# Altium integrated library Microchip Interface.IntLib: 149 symbols (part 1 of 4)
Pins are listed as number, name and electrical type; pins without a type are passive.

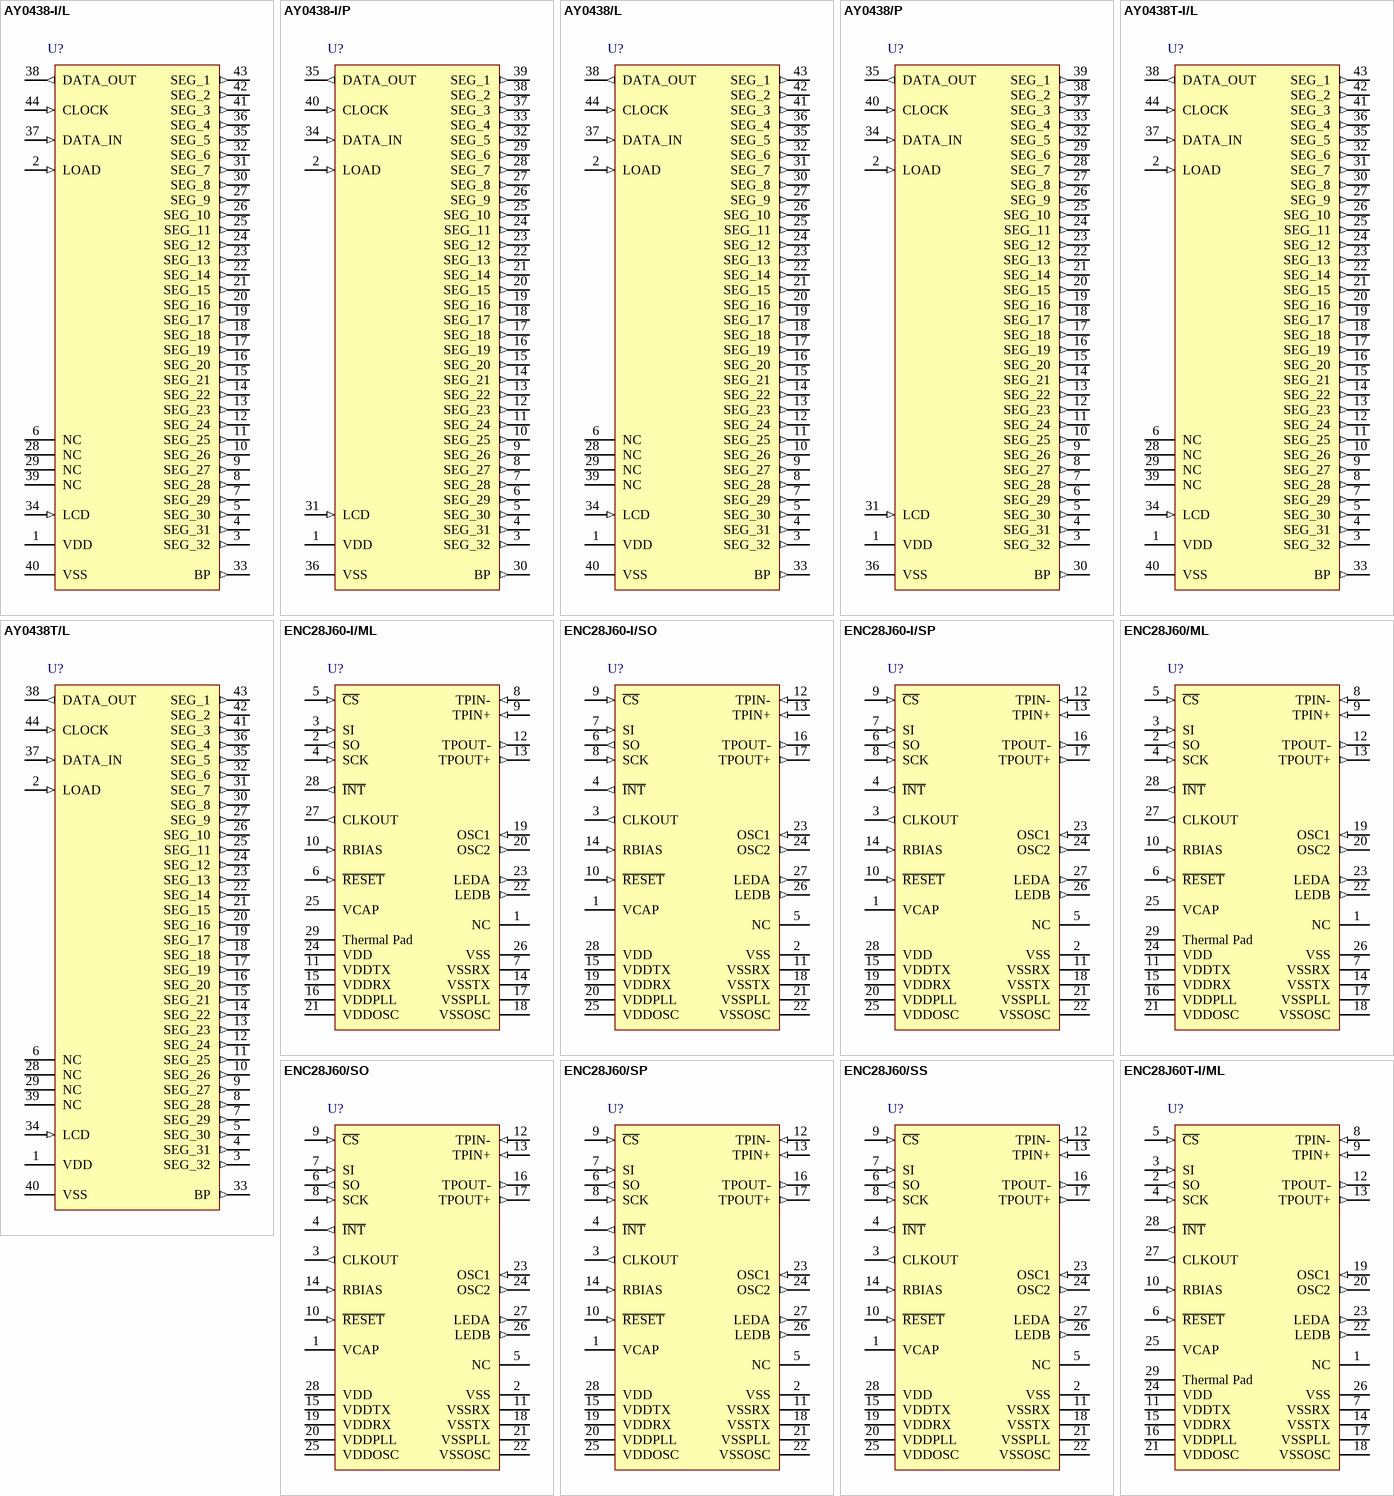
[diagram p0: symbols AY0438-I/L to ENC28J60T-I/ML]

## AY0438-I/L
designator U?
32-Segment CMOS LCD Driver, 44-Pin PLCC, Industrial Temperature; Published: 29-Jan-2009; DatasheetVersion: Mar-2002; PackageVersion: revAW, Oct-2008; PackageReference: PLCC-L44; Publisher: Altium Limited; PackageDescription: 44-Lead Plastic Leaded Chip Carrier (L) - Square [PLCC]; Code_JEDEC: MO-047; Code_IPC: PLCC-44; ComponentLink1Description: Manufacturer Link; ComponentLink1URL: http://www.microchip.com; ComponentLink2Description: Datasheet; ComponentLink2URL: http://ww1.microchip.com/downloads/en/DeviceDoc/80438a.pdf; ComponentLink3Description: Packaging Specification; ComponentLink3URL: http://ww1.microchip.com/downloads/en/PackagingSpec/00049AW.pdf
footprint PLCC-L44_N (Leaded Chip Carrier, 44-Leads, Body 16.6x16.6mm, Pitch 1.27mm, IPC Medium Density)
footprint PLCC-L44_L (Leaded Chip Carrier, 44-Leads, Body 16.6x16.6mm, Pitch 1.27mm, IPC High Density)
footprint PLCC-L44_M (Leaded Chip Carrier, 44-Leads, Body 16.6x16.6mm, Pitch 1.27mm, IPC Low Density)
pins: 1 VDD (power), 2 LOAD (in), 3 SEG_32 (out), 4 SEG_31 (out), 5 SEG_30 (out), 6 NC, 7 SEG_29 (out), 8 SEG_28 (out), 9 SEG_27 (out), 10 SEG_26 (out), 11 SEG_25 (out), 12 SEG_24 (out), 13 SEG_23 (out), 14 SEG_22 (out), 15 SEG_21 (out), 16 SEG_20 (out), 17 SEG_19 (out), 18 SEG_18 (out), 19 SEG_17 (out), 20 SEG_16 (out), 21 SEG_15 (out), 22 SEG_14 (out), 23 SEG_13 (out), 24 SEG_12 (out), 25 SEG_11 (out), 26 SEG_10 (out), 27 SEG_9 (out), 28 NC, 29 NC, 30 SEG_8 (out), 31 SEG_7 (out), 32 SEG_6 (out), 33 BP (out), 34 LCD (in), 35 SEG_5 (out), 36 SEG_4 (out), 37 DATA_IN (in), 38 DATA_OUT (out), 39 NC, 40 VSS (power), 41 SEG_3 (out), 42 SEG_2 (out), 43 SEG_1 (out), 44 CLOCK (in)

## AY0438-I/P
designator U?
32-Segment CMOS LCD Driver, 40-Pin PDIP, Industrial Temperature; Published: 29-Jan-2009; DatasheetVersion: Mar-2002; PackageVersion: revAW, Oct-2008; PackageReference: PDIP600-P40; Publisher: Altium Limited; PackageDescription: 40-Lead Plastic Dual In-Line (P) - 600 mil Body [PDIP]; ComponentLink1Description: Manufacturer Link; ComponentLink1URL: http://www.microchip.com; ComponentLink2Description: Datasheet; ComponentLink2URL: http://ww1.microchip.com/downloads/en/DeviceDoc/80438a.pdf; ComponentLink3Description: Packaging Specification; ComponentLink3URL: http://ww1.microchip.com/downloads/en/PackagingSpec/00049AW.pdf
footprint PDIP600-P40 (DIP, 40-Leads, Row Spacing 15.24mm, Pitch 2.54mm, Body 51.8x13.5mm)
pins: 1 VDD (power), 2 LOAD (in), 3 SEG_32 (out), 4 SEG_31 (out), 5 SEG_30 (out), 6 SEG_29 (out), 7 SEG_28 (out), 8 SEG_27 (out), 9 SEG_26 (out), 10 SEG_25 (out), 11 SEG_24 (out), 12 SEG_23 (out), 13 SEG_22 (out), 14 SEG_21 (out), 15 SEG_20 (out), 16 SEG_19 (out), 17 SEG_18 (out), 18 SEG_17 (out), 19 SEG_16 (out), 20 SEG_15 (out), 21 SEG_14 (out), 22 SEG_13 (out), 23 SEG_12 (out), 24 SEG_11 (out), 25 SEG_10 (out), 26 SEG_9 (out), 27 SEG_8 (out), 28 SEG_7 (out), 29 SEG_6 (out), 30 BP (out), 31 LCD (in), 32 SEG_5 (out), 33 SEG_4 (out), 34 DATA_IN (in), 35 DATA_OUT (out), 36 VSS (power), 37 SEG_3 (out), 38 SEG_2 (out), 39 SEG_1 (out), 40 CLOCK (in)

## AY0438/L
designator U?
32-Segment CMOS LCD Driver, 44-Pin PLCC; Published: 29-Jan-2009; DatasheetVersion: Mar-2002; PackageVersion: revAW, Oct-2008; PackageReference: PLCC-L44; Publisher: Altium Limited; PackageDescription: 44-Lead Plastic Leaded Chip Carrier (L) - Square [PLCC]; Code_JEDEC: MO-047; Code_IPC: PLCC-44; ComponentLink1Description: Manufacturer Link; ComponentLink1URL: http://www.microchip.com; ComponentLink2Description: Datasheet; ComponentLink2URL: http://ww1.microchip.com/downloads/en/DeviceDoc/80438a.pdf; ComponentLink3Description: Packaging Specification; ComponentLink3URL: http://ww1.microchip.com/downloads/en/PackagingSpec/00049AW.pdf
footprint PLCC-L44_N (Leaded Chip Carrier, 44-Leads, Body 16.6x16.6mm, Pitch 1.27mm, IPC Medium Density)
footprint PLCC-L44_L (Leaded Chip Carrier, 44-Leads, Body 16.6x16.6mm, Pitch 1.27mm, IPC High Density)
footprint PLCC-L44_M (Leaded Chip Carrier, 44-Leads, Body 16.6x16.6mm, Pitch 1.27mm, IPC Low Density)
pins: 1 VDD (power), 2 LOAD (in), 3 SEG_32 (out), 4 SEG_31 (out), 5 SEG_30 (out), 6 NC, 7 SEG_29 (out), 8 SEG_28 (out), 9 SEG_27 (out), 10 SEG_26 (out), 11 SEG_25 (out), 12 SEG_24 (out), 13 SEG_23 (out), 14 SEG_22 (out), 15 SEG_21 (out), 16 SEG_20 (out), 17 SEG_19 (out), 18 SEG_18 (out), 19 SEG_17 (out), 20 SEG_16 (out), 21 SEG_15 (out), 22 SEG_14 (out), 23 SEG_13 (out), 24 SEG_12 (out), 25 SEG_11 (out), 26 SEG_10 (out), 27 SEG_9 (out), 28 NC, 29 NC, 30 SEG_8 (out), 31 SEG_7 (out), 32 SEG_6 (out), 33 BP (out), 34 LCD (in), 35 SEG_5 (out), 36 SEG_4 (out), 37 DATA_IN (in), 38 DATA_OUT (out), 39 NC, 40 VSS (power), 41 SEG_3 (out), 42 SEG_2 (out), 43 SEG_1 (out), 44 CLOCK (in)

## AY0438/P
designator U?
32-Segment CMOS LCD Driver, 40-Pin PDIP; Published: 29-Jan-2009; DatasheetVersion: Mar-2002; PackageVersion: revAW, Oct-2008; PackageReference: PDIP600-P40; Publisher: Altium Limited; PackageDescription: 40-Lead Plastic Dual In-Line (P) - 600 mil Body [PDIP]; ComponentLink1Description: Manufacturer Link; ComponentLink1URL: http://www.microchip.com; ComponentLink2Description: Datasheet; ComponentLink2URL: http://ww1.microchip.com/downloads/en/DeviceDoc/80438a.pdf; ComponentLink3Description: Packaging Specification; ComponentLink3URL: http://ww1.microchip.com/downloads/en/PackagingSpec/00049AW.pdf
footprint PDIP600-P40 (DIP, 40-Leads, Row Spacing 15.24mm, Pitch 2.54mm, Body 51.8x13.5mm)
pins: 1 VDD (power), 2 LOAD (in), 3 SEG_32 (out), 4 SEG_31 (out), 5 SEG_30 (out), 6 SEG_29 (out), 7 SEG_28 (out), 8 SEG_27 (out), 9 SEG_26 (out), 10 SEG_25 (out), 11 SEG_24 (out), 12 SEG_23 (out), 13 SEG_22 (out), 14 SEG_21 (out), 15 SEG_20 (out), 16 SEG_19 (out), 17 SEG_18 (out), 18 SEG_17 (out), 19 SEG_16 (out), 20 SEG_15 (out), 21 SEG_14 (out), 22 SEG_13 (out), 23 SEG_12 (out), 24 SEG_11 (out), 25 SEG_10 (out), 26 SEG_9 (out), 27 SEG_8 (out), 28 SEG_7 (out), 29 SEG_6 (out), 30 BP (out), 31 LCD (in), 32 SEG_5 (out), 33 SEG_4 (out), 34 DATA_IN (in), 35 DATA_OUT (out), 36 VSS (power), 37 SEG_3 (out), 38 SEG_2 (out), 39 SEG_1 (out), 40 CLOCK (in)

## AY0438T-I/L
designator U?
32-Segment CMOS LCD Driver, 44-Pin PLCC, Industrial Temperature, Tape and Reel; Published: 29-Jan-2009; DatasheetVersion: Mar-2002; PackageVersion: revAW, Oct-2008; PackageReference: PLCC-L44; Publisher: Altium Limited; PackageDescription: 44-Lead Plastic Leaded Chip Carrier (L) - Square [PLCC]; Code_JEDEC: MO-047; Code_IPC: PLCC-44; ComponentLink1Description: Manufacturer Link; ComponentLink1URL: http://www.microchip.com; ComponentLink2Description: Datasheet; ComponentLink2URL: http://ww1.microchip.com/downloads/en/DeviceDoc/80438a.pdf; ComponentLink3Description: Packaging Specification; ComponentLink3URL: http://ww1.microchip.com/downloads/en/PackagingSpec/00049AW.pdf
footprint PLCC-L44_N (Leaded Chip Carrier, 44-Leads, Body 16.6x16.6mm, Pitch 1.27mm, IPC Medium Density)
footprint PLCC-L44_L (Leaded Chip Carrier, 44-Leads, Body 16.6x16.6mm, Pitch 1.27mm, IPC High Density)
footprint PLCC-L44_M (Leaded Chip Carrier, 44-Leads, Body 16.6x16.6mm, Pitch 1.27mm, IPC Low Density)
pins: 1 VDD (power), 2 LOAD (in), 3 SEG_32 (out), 4 SEG_31 (out), 5 SEG_30 (out), 6 NC, 7 SEG_29 (out), 8 SEG_28 (out), 9 SEG_27 (out), 10 SEG_26 (out), 11 SEG_25 (out), 12 SEG_24 (out), 13 SEG_23 (out), 14 SEG_22 (out), 15 SEG_21 (out), 16 SEG_20 (out), 17 SEG_19 (out), 18 SEG_18 (out), 19 SEG_17 (out), 20 SEG_16 (out), 21 SEG_15 (out), 22 SEG_14 (out), 23 SEG_13 (out), 24 SEG_12 (out), 25 SEG_11 (out), 26 SEG_10 (out), 27 SEG_9 (out), 28 NC, 29 NC, 30 SEG_8 (out), 31 SEG_7 (out), 32 SEG_6 (out), 33 BP (out), 34 LCD (in), 35 SEG_5 (out), 36 SEG_4 (out), 37 DATA_IN (in), 38 DATA_OUT (out), 39 NC, 40 VSS (power), 41 SEG_3 (out), 42 SEG_2 (out), 43 SEG_1 (out), 44 CLOCK (in)

## AY0438T/L
designator U?
32-Segment CMOS LCD Driver, 44-Pin PLCC; Published: 29-Jan-2009; DatasheetVersion: Mar-2002; PackageVersion: revAW, Oct-2008; PackageReference: PLCC-L44; Publisher: Altium Limited; PackageDescription: 44-Lead Plastic Leaded Chip Carrier (L) - Square [PLCC]; Code_JEDEC: MO-047; Code_IPC: PLCC-44; ComponentLink1Description: Manufacturer Link; ComponentLink1URL: http://www.microchip.com; ComponentLink2Description: Datasheet; ComponentLink2URL: http://ww1.microchip.com/downloads/en/DeviceDoc/80438a.pdf; ComponentLink3Description: Packaging Specification; ComponentLink3URL: http://ww1.microchip.com/downloads/en/PackagingSpec/00049AW.pdf
footprint PLCC-L44_N (Leaded Chip Carrier, 44-Leads, Body 16.6x16.6mm, Pitch 1.27mm, IPC Medium Density)
footprint PLCC-L44_L (Leaded Chip Carrier, 44-Leads, Body 16.6x16.6mm, Pitch 1.27mm, IPC High Density)
footprint PLCC-L44_M (Leaded Chip Carrier, 44-Leads, Body 16.6x16.6mm, Pitch 1.27mm, IPC Low Density)
pins: 1 VDD (power), 2 LOAD (in), 3 SEG_32 (out), 4 SEG_31 (out), 5 SEG_30 (out), 6 NC, 7 SEG_29 (out), 8 SEG_28 (out), 9 SEG_27 (out), 10 SEG_26 (out), 11 SEG_25 (out), 12 SEG_24 (out), 13 SEG_23 (out), 14 SEG_22 (out), 15 SEG_21 (out), 16 SEG_20 (out), 17 SEG_19 (out), 18 SEG_18 (out), 19 SEG_17 (out), 20 SEG_16 (out), 21 SEG_15 (out), 22 SEG_14 (out), 23 SEG_13 (out), 24 SEG_12 (out), 25 SEG_11 (out), 26 SEG_10 (out), 27 SEG_9 (out), 28 NC, 29 NC, 30 SEG_8 (out), 31 SEG_7 (out), 32 SEG_6 (out), 33 BP (out), 34 LCD (in), 35 SEG_5 (out), 36 SEG_4 (out), 37 DATA_IN (in), 38 DATA_OUT (out), 39 NC, 40 VSS (power), 41 SEG_3 (out), 42 SEG_2 (out), 43 SEG_1 (out), 44 CLOCK (in)

## ENC28J60-I/ML
designator U?
Stand-Alone Ethernet Controller with SPI Interface, 28-Pin QFN, Industrial Temperature; Published: 29-Jan-2009; LatestRevisionDate: 4-May-2009; LatestRevisionNote: Pinout fixed; DatasheetVersion: RevC, Jan-2008; PackageVersion: revAW, Oct-2008; PackageReference: QFN-ML28; Publisher: Altium Limited; PackageDescription: 28-Lead Plastic Quad Flat, No Lead Package (ML) - 6x6 mm Body [QFN] with 0.55 mm Contact Length; Code_JEDEC: MO-220; Code_IPC: QFN65P600X600-28V; ComponentLink1Description: Manufacturer Link; ComponentLink1URL: http://www.microchip.com; ComponentLink2Description: Datasheet; ComponentLink2URL: http://ww1.microchip.com/downloads/en/DeviceDoc/39662c.pdf; ComponentLink3Description: Packaging Specification; ComponentLink3URL: http://ww1.microchip.com/downloads/en/PackagingSpec/00049AW.pdf
footprint QFN-ML28_N (QFN, 28-Leads, Body 6x6 mm, Pitch 0.65mm, IPC Medium Density)
footprint QFN-ML28_L (QFN, 28-Leads, Body 6x6 mm, Pitch 0.65mm, IPC High Density)
footprint QFN-ML28_M (QFN, 28-Leads, Body 6x6 mm, Pitch 0.65mm, IPC Low Density)
pins: 1 NC, 2 SO (out), 3 SI (in), 4 SCK (in), 5 ~{CS} (in), 6 ~{RESET} (in), 7 VSSRX (power), 8 TPIN- (in), 9 TPIN+ (in), 10 RBIAS (in), 11 VDDTX (power), 12 TPOUT- (out), 13 TPOUT+ (out), 14 VSSTX (power), 15 VDDRX (power), 16 VDDPLL (power), 17 VSSPLL (power), 18 VSSOSC (power), 19 OSC1 (in), 20 OSC2 (out), 21 VDDOSC (power), 22 LEDB (out), 23 LEDA (out), 24 VDD (power), 25 VCAP (power), 26 VSS (power), 27 CLKOUT (out), 28 ~{INT} (out), 29 Thermal Pad

## ENC28J60-I/SO
designator U?
Stand-Alone Ethernet Controller with SPI Interface, 28-Pin SOIC, Industrial Temperature; Published: 29-Jan-2009; DatasheetVersion: RevC, Jan-2008; PackageVersion: revAW, Oct-2008; PackageReference: SOIC-SO28; Publisher: Altium Limited; PackageDescription: 28-Lead Plastic Small Outline (SO) - Wide 7.50mm Body [SOIC]; Code_JEDEC: MS-013; ComponentLink1Description: Manufacturer Link; ComponentLink1URL: http://www.microchip.com; ComponentLink2Description: Datasheet; ComponentLink2URL: http://ww1.microchip.com/downloads/en/DeviceDoc/39662c.pdf; ComponentLink3Description: Packaging Specification; ComponentLink3URL: http://ww1.microchip.com/downloads/en/PackagingSpec/00049AW.pdf
footprint SOIC-SO28_N (SOIC, 28-Leads, Body 17.9x7.5mm, Pitch 1.27mm, IPC Medium Density)
footprint SOIC-SO28_L (SOIC, 28-Leads, Body 17.9x7.5mm, Pitch 1.27mm, IPC High Density)
footprint SOIC-SO28_M (SOIC, 28-Leads, Body 17.9x7.5mm, Pitch 1.27mm, IPC Low Density)
pins: 1 VCAP (power), 2 VSS (power), 3 CLKOUT (out), 4 ~{INT} (out), 5 NC, 6 SO (out), 7 SI (in), 8 SCK (in), 9 ~{CS} (in), 10 ~{RESET} (in), 11 VSSRX (power), 12 TPIN- (in), 13 TPIN+ (in), 14 RBIAS (in), 15 VDDTX (power), 16 TPOUT- (out), 17 TPOUT+ (out), 18 VSSTX (power), 19 VDDRX (power), 20 VDDPLL (power), 21 VSSPLL (power), 22 VSSOSC (power), 23 OSC1 (in), 24 OSC2 (out), 25 VDDOSC (power), 26 LEDB (out), 27 LEDA (out), 28 VDD (power)

## ENC28J60-I/SP
designator U?
Stand-Alone Ethernet Controller with SPI Interface, 28-Pin SPDIP, Industrial Temperature; Published: 29-Jan-2009; DatasheetVersion: RevC, Jan-2008; PackageVersion: revAW, Oct-2008; PackageReference: SPDIP300-SP28; Publisher: Altium Limited; PackageDescription: 28-Lead Skinny Plastic Dual In-Line (SP) - 300 mil Body [SPDIP]; ComponentLink1Description: Manufacturer Link; ComponentLink1URL: http://www.microchip.com; ComponentLink2Description: Datasheet; ComponentLink2URL: http://ww1.microchip.com/downloads/en/DeviceDoc/39662c.pdf; ComponentLink3Description: Packaging Specification; ComponentLink3URL: http://ww1.microchip.com/downloads/en/PackagingSpec/00049AW.pdf
footprint SPDIP300-SP28 (DIP, 28-Leads, Row Spacing 7.62mm, Pitch 2.54mm, Body 34.9x6.8mm)
pins: 1 VCAP (power), 2 VSS (power), 3 CLKOUT (out), 4 ~{INT} (out), 5 NC, 6 SO (out), 7 SI (in), 8 SCK (in), 9 ~{CS} (in), 10 ~{RESET} (in), 11 VSSRX (power), 12 TPIN- (in), 13 TPIN+ (in), 14 RBIAS (in), 15 VDDTX (power), 16 TPOUT- (out), 17 TPOUT+ (out), 18 VSSTX (power), 19 VDDRX (power), 20 VDDPLL (power), 21 VSSPLL (power), 22 VSSOSC (power), 23 OSC1 (in), 24 OSC2 (out), 25 VDDOSC (power), 26 LEDB (out), 27 LEDA (out), 28 VDD (power)

## ENC28J60/ML
designator U?
Stand-Alone Ethernet Controller with SPI Interface, 28-Pin QFN; Published: 29-Jan-2009; LatestRevisionDate: 4-May-2009; LatestRevisionNote: Pinout fixed; DatasheetVersion: RevC, Jan-2008; PackageVersion: revAW, Oct-2008; PackageReference: QFN-ML28; Publisher: Altium Limited; PackageDescription: 28-Lead Plastic Quad Flat, No Lead Package (ML) - 6x6 mm Body [QFN] with 0.55 mm Contact Length; Code_JEDEC: MO-220; Code_IPC: QFN65P600X600-28V; ComponentLink1Description: Manufacturer Link; ComponentLink1URL: http://www.microchip.com; ComponentLink2Description: Datasheet; ComponentLink2URL: http://ww1.microchip.com/downloads/en/DeviceDoc/39662c.pdf; ComponentLink3Description: Packaging Specification; ComponentLink3URL: http://ww1.microchip.com/downloads/en/PackagingSpec/00049AW.pdf
footprint QFN-ML28_N (QFN, 28-Leads, Body 6x6 mm, Pitch 0.65mm, IPC Medium Density)
footprint QFN-ML28_L (QFN, 28-Leads, Body 6x6 mm, Pitch 0.65mm, IPC High Density)
footprint QFN-ML28_M (QFN, 28-Leads, Body 6x6 mm, Pitch 0.65mm, IPC Low Density)
pins: 1 NC, 2 SO (out), 3 SI (in), 4 SCK (in), 5 ~{CS} (in), 6 ~{RESET} (in), 7 VSSRX (power), 8 TPIN- (in), 9 TPIN+ (in), 10 RBIAS (in), 11 VDDTX (power), 12 TPOUT- (out), 13 TPOUT+ (out), 14 VSSTX (power), 15 VDDRX (power), 16 VDDPLL (power), 17 VSSPLL (power), 18 VSSOSC (power), 19 OSC1 (in), 20 OSC2 (out), 21 VDDOSC (power), 22 LEDB (out), 23 LEDA (out), 24 VDD (power), 25 VCAP (power), 26 VSS (power), 27 CLKOUT (out), 28 ~{INT} (out), 29 Thermal Pad

## ENC28J60/SO
designator U?
Stand-Alone Ethernet Controller with SPI Interface, 28-Pin SOIC; Published: 29-Jan-2009; DatasheetVersion: RevC, Jan-2008; PackageVersion: revAW, Oct-2008; PackageReference: SOIC-SO28; Publisher: Altium Limited; PackageDescription: 28-Lead Plastic Small Outline (SO) - Wide 7.50mm Body [SOIC]; Code_JEDEC: MS-013; ComponentLink1Description: Manufacturer Link; ComponentLink1URL: http://www.microchip.com; ComponentLink2Description: Datasheet; ComponentLink2URL: http://ww1.microchip.com/downloads/en/DeviceDoc/39662c.pdf; ComponentLink3Description: Packaging Specification; ComponentLink3URL: http://ww1.microchip.com/downloads/en/PackagingSpec/00049AW.pdf
footprint SOIC-SO28_N (SOIC, 28-Leads, Body 17.9x7.5mm, Pitch 1.27mm, IPC Medium Density)
footprint SOIC-SO28_L (SOIC, 28-Leads, Body 17.9x7.5mm, Pitch 1.27mm, IPC High Density)
footprint SOIC-SO28_M (SOIC, 28-Leads, Body 17.9x7.5mm, Pitch 1.27mm, IPC Low Density)
pins: 1 VCAP (power), 2 VSS (power), 3 CLKOUT (out), 4 ~{INT} (out), 5 NC, 6 SO (out), 7 SI (in), 8 SCK (in), 9 ~{CS} (in), 10 ~{RESET} (in), 11 VSSRX (power), 12 TPIN- (in), 13 TPIN+ (in), 14 RBIAS (in), 15 VDDTX (power), 16 TPOUT- (out), 17 TPOUT+ (out), 18 VSSTX (power), 19 VDDRX (power), 20 VDDPLL (power), 21 VSSPLL (power), 22 VSSOSC (power), 23 OSC1 (in), 24 OSC2 (out), 25 VDDOSC (power), 26 LEDB (out), 27 LEDA (out), 28 VDD (power)

## ENC28J60/SP
designator U?
Stand-Alone Ethernet Controller with SPI Interface, 28-Pin SPDIP; Published: 29-Jan-2009; DatasheetVersion: RevC, Jan-2008; PackageVersion: revAW, Oct-2008; PackageReference: SPDIP300-SP28; Publisher: Altium Limited; PackageDescription: 28-Lead Skinny Plastic Dual In-Line (SP) - 300 mil Body [SPDIP]; ComponentLink1Description: Manufacturer Link; ComponentLink1URL: http://www.microchip.com; ComponentLink2Description: Datasheet; ComponentLink2URL: http://ww1.microchip.com/downloads/en/DeviceDoc/39662c.pdf; ComponentLink3Description: Packaging Specification; ComponentLink3URL: http://ww1.microchip.com/downloads/en/PackagingSpec/00049AW.pdf
footprint SPDIP300-SP28 (DIP, 28-Leads, Row Spacing 7.62mm, Pitch 2.54mm, Body 34.9x6.8mm)
pins: 1 VCAP (power), 2 VSS (power), 3 CLKOUT (out), 4 ~{INT} (out), 5 NC, 6 SO (out), 7 SI (in), 8 SCK (in), 9 ~{CS} (in), 10 ~{RESET} (in), 11 VSSRX (power), 12 TPIN- (in), 13 TPIN+ (in), 14 RBIAS (in), 15 VDDTX (power), 16 TPOUT- (out), 17 TPOUT+ (out), 18 VSSTX (power), 19 VDDRX (power), 20 VDDPLL (power), 21 VSSPLL (power), 22 VSSOSC (power), 23 OSC1 (in), 24 OSC2 (out), 25 VDDOSC (power), 26 LEDB (out), 27 LEDA (out), 28 VDD (power)

## ENC28J60/SS
designator U?
Stand-Alone Ethernet Controller with SPI Interface, 28-Pin SSOP; Published: 29-Jan-2009; DatasheetVersion: RevC, Jan-2008; PackageVersion: revAW, Oct-2008; PackageReference: SSOP-SS28; Publisher: Altium Limited; PackageDescription: 28-Lead Plastic Shrink Small Outline (SS) - 5.3mm Body [SSOP]; Code_JEDEC: MS-150; Code_IPC: SOP65P780-28; ComponentLink1Description: Manufacturer Link; ComponentLink1URL: http://www.microchip.com; ComponentLink2Description: Datasheet; ComponentLink2URL: http://ww1.microchip.com/downloads/en/DeviceDoc/39662c.pdf; ComponentLink3Description: Packaging Specification; ComponentLink3URL: http://ww1.microchip.com/downloads/en/PackagingSpec/00049AW.pdf
footprint SSOP-SS28_N (SOP, 28-Leads, Body 10.2x5.2mm, Pitch 0.65mm, IPC Medium Density)
footprint SSOP-SS28_L (SOP, 28-Leads, Body 10.2x5.2mm, Pitch 0.65mm, IPC High Density)
footprint SSOP-SS28_M (SOP, 28-Leads, Body 10.2x5.2mm, Pitch 0.65mm, IPC Low Density)
pins: 1 VCAP (power), 2 VSS (power), 3 CLKOUT (out), 4 ~{INT} (out), 5 NC, 6 SO (out), 7 SI (in), 8 SCK (in), 9 ~{CS} (in), 10 ~{RESET} (in), 11 VSSRX (power), 12 TPIN- (in), 13 TPIN+ (in), 14 RBIAS (in), 15 VDDTX (power), 16 TPOUT- (out), 17 TPOUT+ (out), 18 VSSTX (power), 19 VDDRX (power), 20 VDDPLL (power), 21 VSSPLL (power), 22 VSSOSC (power), 23 OSC1 (in), 24 OSC2 (out), 25 VDDOSC (power), 26 LEDB (out), 27 LEDA (out), 28 VDD (power)

## ENC28J60T-I/ML
designator U?
Stand-Alone Ethernet Controller with SPI Interface, 28-Pin QFN, Industrial Temperature, Tape and Reel; Published: 29-Jan-2009; LatestRevisionDate: 4-May-2009; LatestRevisionNote: Pinout fixed; DatasheetVersion: RevC, Jan-2008; PackageVersion: revAW, Oct-2008; PackageReference: QFN-ML28; Publisher: Altium Limited; PackageDescription: 28-Lead Plastic Quad Flat, No Lead Package (ML) - 6x6 mm Body [QFN] with 0.55 mm Contact Length; Code_JEDEC: MO-220; Code_IPC: QFN65P600X600-28V; ComponentLink1Description: Manufacturer Link; ComponentLink1URL: http://www.microchip.com; ComponentLink2Description: Datasheet; ComponentLink2URL: http://ww1.microchip.com/downloads/en/DeviceDoc/39662c.pdf; ComponentLink3Description: Packaging Specification; ComponentLink3URL: http://ww1.microchip.com/downloads/en/PackagingSpec/00049AW.pdf
footprint QFN-ML28_N (QFN, 28-Leads, Body 6x6 mm, Pitch 0.65mm, IPC Medium Density)
footprint QFN-ML28_L (QFN, 28-Leads, Body 6x6 mm, Pitch 0.65mm, IPC High Density)
footprint QFN-ML28_M (QFN, 28-Leads, Body 6x6 mm, Pitch 0.65mm, IPC Low Density)
pins: 1 NC, 2 SO (out), 3 SI (in), 4 SCK (in), 5 ~{CS} (in), 6 ~{RESET} (in), 7 VSSRX (power), 8 TPIN- (in), 9 TPIN+ (in), 10 RBIAS (in), 11 VDDTX (power), 12 TPOUT- (out), 13 TPOUT+ (out), 14 VSSTX (power), 15 VDDRX (power), 16 VDDPLL (power), 17 VSSPLL (power), 18 VSSOSC (power), 19 OSC1 (in), 20 OSC2 (out), 21 VDDOSC (power), 22 LEDB (out), 23 LEDA (out), 24 VDD (power), 25 VCAP (power), 26 VSS (power), 27 CLKOUT (out), 28 ~{INT} (out), 29 Thermal Pad

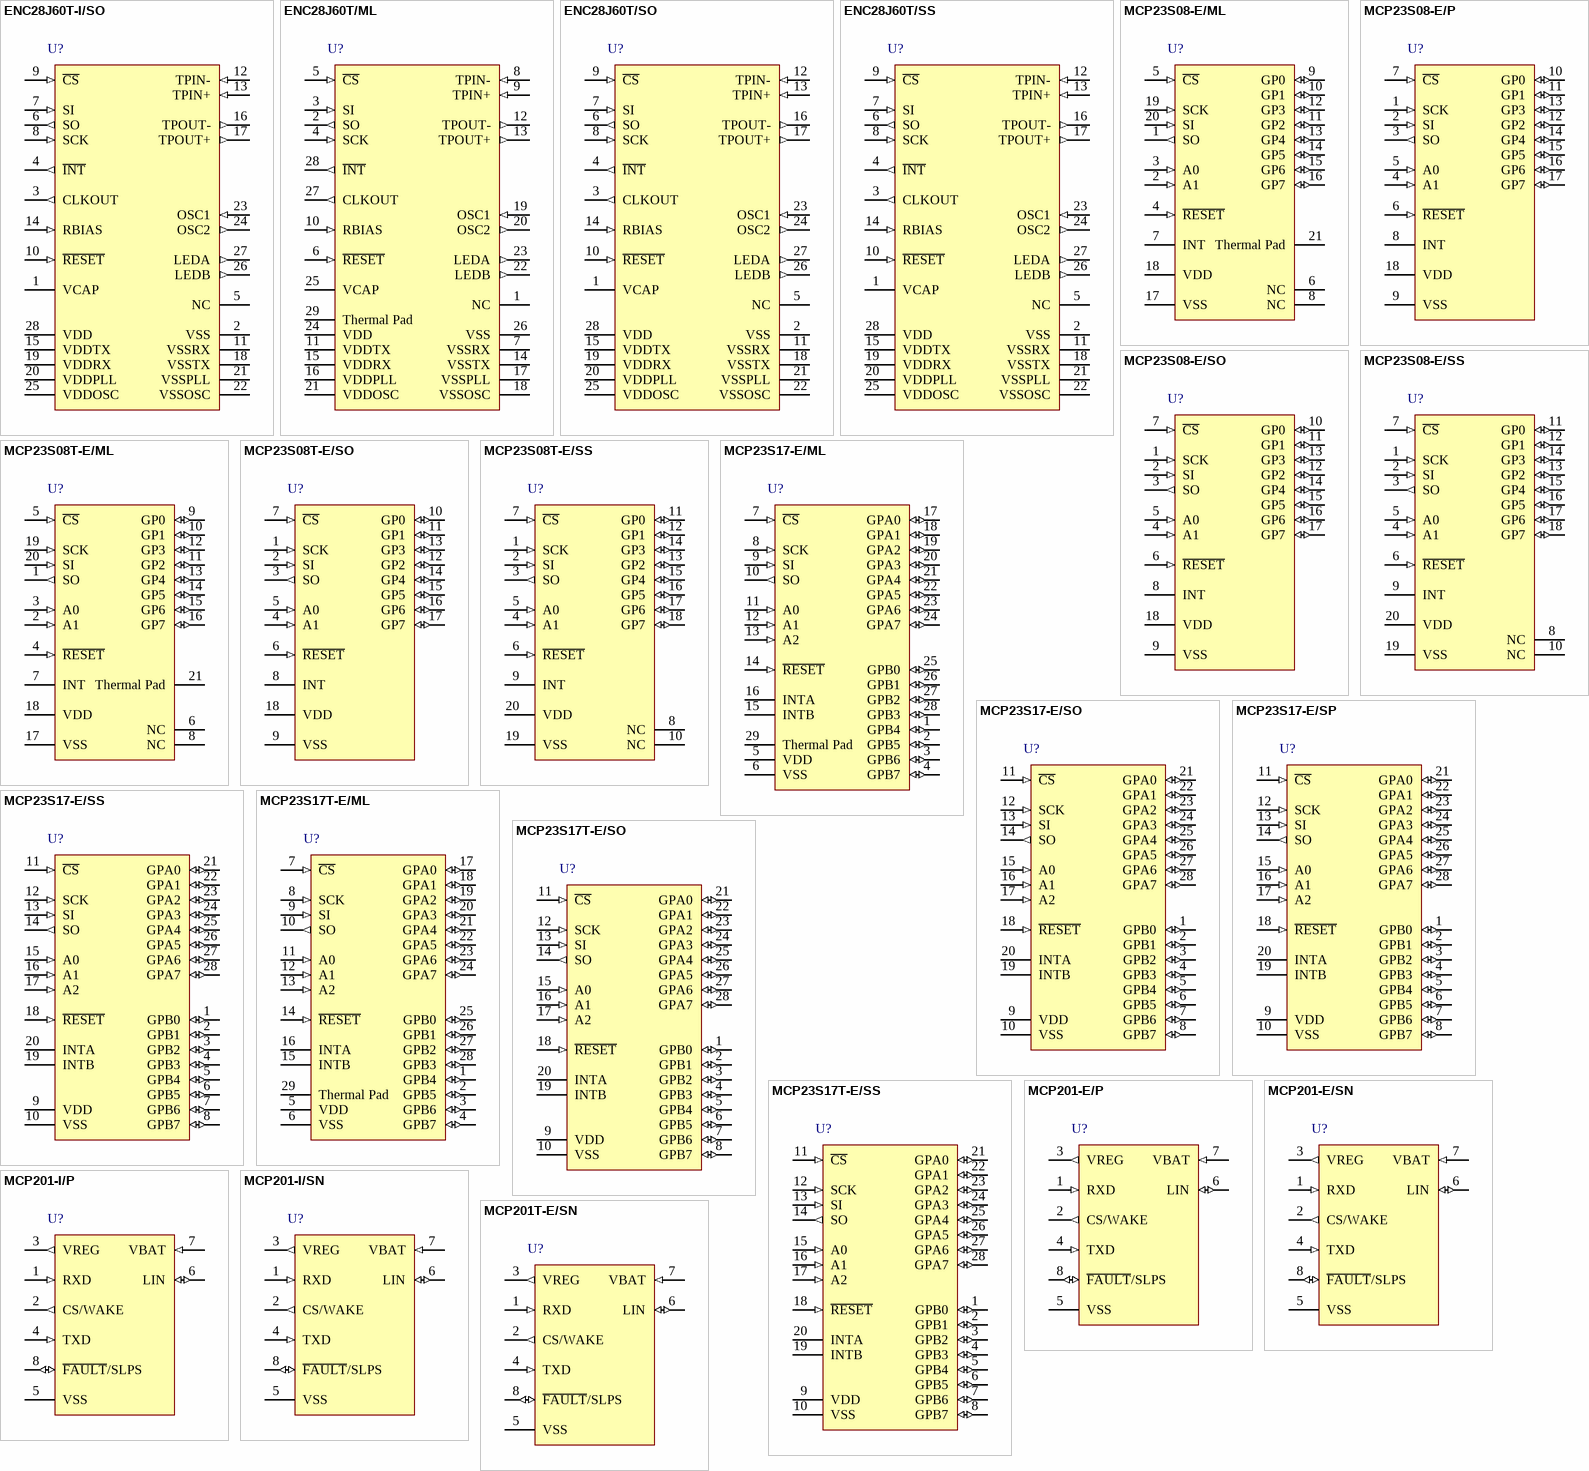
[diagram p1: symbols ENC28J60T-I/SO to MCP201T-E/SN]

## ENC28J60T-I/SO
designator U?
Stand-Alone Ethernet Controller with SPI Interface, 28-Pin SOIC, Industrial Temperature, Tape and Reel; Published: 29-Jan-2009; DatasheetVersion: RevC, Jan-2008; PackageVersion: revAW, Oct-2008; PackageReference: SOIC-SO28; Publisher: Altium Limited; PackageDescription: 28-Lead Plastic Small Outline (SO) - Wide 7.50mm Body [SOIC]; Code_JEDEC: MS-013; ComponentLink1Description: Manufacturer Link; ComponentLink1URL: http://www.microchip.com; ComponentLink2Description: Datasheet; ComponentLink2URL: http://ww1.microchip.com/downloads/en/DeviceDoc/39662c.pdf; ComponentLink3Description: Packaging Specification; ComponentLink3URL: http://ww1.microchip.com/downloads/en/PackagingSpec/00049AW.pdf
footprint SOIC-SO28_N (SOIC, 28-Leads, Body 17.9x7.5mm, Pitch 1.27mm, IPC Medium Density)
footprint SOIC-SO28_L (SOIC, 28-Leads, Body 17.9x7.5mm, Pitch 1.27mm, IPC High Density)
footprint SOIC-SO28_M (SOIC, 28-Leads, Body 17.9x7.5mm, Pitch 1.27mm, IPC Low Density)
pins: 1 VCAP (power), 2 VSS (power), 3 CLKOUT (out), 4 ~{INT} (out), 5 NC, 6 SO (out), 7 SI (in), 8 SCK (in), 9 ~{CS} (in), 10 ~{RESET} (in), 11 VSSRX (power), 12 TPIN- (in), 13 TPIN+ (in), 14 RBIAS (in), 15 VDDTX (power), 16 TPOUT- (out), 17 TPOUT+ (out), 18 VSSTX (power), 19 VDDRX (power), 20 VDDPLL (power), 21 VSSPLL (power), 22 VSSOSC (power), 23 OSC1 (in), 24 OSC2 (out), 25 VDDOSC (power), 26 LEDB (out), 27 LEDA (out), 28 VDD (power)

## ENC28J60T/ML
designator U?
Stand-Alone Ethernet Controller with SPI Interface, 28-Pin QFN; Published: 29-Jan-2009; LatestRevisionDate: 4-May-2009; LatestRevisionNote: Pinout fixed; DatasheetVersion: RevC, Jan-2008; PackageVersion: revAW, Oct-2008; PackageReference: QFN-ML28; Publisher: Altium Limited; PackageDescription: 28-Lead Plastic Quad Flat, No Lead Package (ML) - 6x6 mm Body [QFN] with 0.55 mm Contact Length; Code_JEDEC: MO-220; Code_IPC: QFN65P600X600-28V; ComponentLink1Description: Manufacturer Link; ComponentLink1URL: http://www.microchip.com; ComponentLink2Description: Datasheet; ComponentLink2URL: http://ww1.microchip.com/downloads/en/DeviceDoc/39662c.pdf; ComponentLink3Description: Packaging Specification; ComponentLink3URL: http://ww1.microchip.com/downloads/en/PackagingSpec/00049AW.pdf
footprint QFN-ML28_N (QFN, 28-Leads, Body 6x6 mm, Pitch 0.65mm, IPC Medium Density)
footprint QFN-ML28_L (QFN, 28-Leads, Body 6x6 mm, Pitch 0.65mm, IPC High Density)
footprint QFN-ML28_M (QFN, 28-Leads, Body 6x6 mm, Pitch 0.65mm, IPC Low Density)
pins: 1 NC, 2 SO (out), 3 SI (in), 4 SCK (in), 5 ~{CS} (in), 6 ~{RESET} (in), 7 VSSRX (power), 8 TPIN- (in), 9 TPIN+ (in), 10 RBIAS (in), 11 VDDTX (power), 12 TPOUT- (out), 13 TPOUT+ (out), 14 VSSTX (power), 15 VDDRX (power), 16 VDDPLL (power), 17 VSSPLL (power), 18 VSSOSC (power), 19 OSC1 (in), 20 OSC2 (out), 21 VDDOSC (power), 22 LEDB (out), 23 LEDA (out), 24 VDD (power), 25 VCAP (power), 26 VSS (power), 27 CLKOUT (out), 28 ~{INT} (out), 29 Thermal Pad

## ENC28J60T/SO
designator U?
Stand-Alone Ethernet Controller with SPI Interface, 28-Pin SOIC; Published: 29-Jan-2009; DatasheetVersion: RevC, Jan-2008; PackageVersion: revAW, Oct-2008; PackageReference: SOIC-SO28; Publisher: Altium Limited; PackageDescription: 28-Lead Plastic Small Outline (SO) - Wide 7.50mm Body [SOIC]; Code_JEDEC: MS-013; ComponentLink1Description: Manufacturer Link; ComponentLink1URL: http://www.microchip.com; ComponentLink2Description: Datasheet; ComponentLink2URL: http://ww1.microchip.com/downloads/en/DeviceDoc/39662c.pdf; ComponentLink3Description: Packaging Specification; ComponentLink3URL: http://ww1.microchip.com/downloads/en/PackagingSpec/00049AW.pdf
footprint SOIC-SO28_N (SOIC, 28-Leads, Body 17.9x7.5mm, Pitch 1.27mm, IPC Medium Density)
footprint SOIC-SO28_L (SOIC, 28-Leads, Body 17.9x7.5mm, Pitch 1.27mm, IPC High Density)
footprint SOIC-SO28_M (SOIC, 28-Leads, Body 17.9x7.5mm, Pitch 1.27mm, IPC Low Density)
pins: 1 VCAP (power), 2 VSS (power), 3 CLKOUT (out), 4 ~{INT} (out), 5 NC, 6 SO (out), 7 SI (in), 8 SCK (in), 9 ~{CS} (in), 10 ~{RESET} (in), 11 VSSRX (power), 12 TPIN- (in), 13 TPIN+ (in), 14 RBIAS (in), 15 VDDTX (power), 16 TPOUT- (out), 17 TPOUT+ (out), 18 VSSTX (power), 19 VDDRX (power), 20 VDDPLL (power), 21 VSSPLL (power), 22 VSSOSC (power), 23 OSC1 (in), 24 OSC2 (out), 25 VDDOSC (power), 26 LEDB (out), 27 LEDA (out), 28 VDD (power)

## ENC28J60T/SS
designator U?
Stand-Alone Ethernet Controller with SPI Interface, 28-Pin SSOP, Tape and Reel; Published: 29-Jan-2009; DatasheetVersion: RevC, Jan-2008; PackageVersion: revAW, Oct-2008; PackageReference: SSOP-SS28; Publisher: Altium Limited; PackageDescription: 28-Lead Plastic Shrink Small Outline (SS) - 5.3mm Body [SSOP]; Code_JEDEC: MS-150; Code_IPC: SOP65P780-28; ComponentLink1Description: Manufacturer Link; ComponentLink1URL: http://www.microchip.com; ComponentLink2Description: Datasheet; ComponentLink2URL: http://ww1.microchip.com/downloads/en/DeviceDoc/39662c.pdf; ComponentLink3Description: Packaging Specification; ComponentLink3URL: http://ww1.microchip.com/downloads/en/PackagingSpec/00049AW.pdf
footprint SSOP-SS28_N (SOP, 28-Leads, Body 10.2x5.2mm, Pitch 0.65mm, IPC Medium Density)
footprint SSOP-SS28_L (SOP, 28-Leads, Body 10.2x5.2mm, Pitch 0.65mm, IPC High Density)
footprint SSOP-SS28_M (SOP, 28-Leads, Body 10.2x5.2mm, Pitch 0.65mm, IPC Low Density)
pins: 1 VCAP (power), 2 VSS (power), 3 CLKOUT (out), 4 ~{INT} (out), 5 NC, 6 SO (out), 7 SI (in), 8 SCK (in), 9 ~{CS} (in), 10 ~{RESET} (in), 11 VSSRX (power), 12 TPIN- (in), 13 TPIN+ (in), 14 RBIAS (in), 15 VDDTX (power), 16 TPOUT- (out), 17 TPOUT+ (out), 18 VSSTX (power), 19 VDDRX (power), 20 VDDPLL (power), 21 VSSPLL (power), 22 VSSOSC (power), 23 OSC1 (in), 24 OSC2 (out), 25 VDDOSC (power), 26 LEDB (out), 27 LEDA (out), 28 VDD (power)

## MCP23S08-E/ML
designator U?
8-Bit I/O Expander with Serial Interface, 20-Pin QFN, Extended Temperature; Published: 29-Jan-2009; DatasheetVersion: revE, Aug-2007; PackageVersion: revAW, Oct-2008; PackageReference: QFN-ML20; Publisher: Altium Limited; PackageDescription: 20-Lead Plastic Quad Flat, No Lead Package (ML) - 4x4x0.9 mm Body [QFN]; ComponentLink1Description: Manufacturer Link; ComponentLink1URL: http://www.microchip.com; ComponentLink2Description: Datasheet; ComponentLink2URL: http://ww1.microchip.com/downloads/en/DeviceDoc/21919e.pdf; ComponentLink3Description: Packaging Specification; ComponentLink3URL: http://ww1.microchip.com/downloads/en/PackagingSpec/00049AW.pdf
footprint QFN-ML20_N (QFN, 20-Leads, Body 4x4mm, Pitch 0.5mm, IPC Medium Density)
footprint QFN-ML20_L (QFN, 20-Leads, Body 4x4mm, Pitch 0.5mm, IPC High Density)
footprint QFN-ML20_M (QFN, 20-Leads, Body 4x4mm, Pitch 0.5mm, IPC Low Density)
pins: 1 SO (out), 2 A1 (in), 3 A0 (in), 4 ~{RESET} (in), 5 ~{CS} (in), 6 NC, 7 INT (oc), 8 NC, 9 GP0 (io), 10 GP1 (io), 11 GP2 (io), 12 GP3 (io), 13 GP4 (io), 14 GP5 (io), 15 GP6 (io), 16 GP7 (io), 17 VSS (power), 18 VDD (power), 19 SCK (in), 20 SI (in), 21 Thermal Pad

## MCP23S08-E/P
designator U?
8-Bit I/O Expander with Serial Interface, 18-Pin PDIP, Extended Temperature; Published: 29-Jan-2009; DatasheetVersion: revE, Aug-2007; PackageVersion: revAW, Oct-2008; PackageReference: PDIP300-P18; Publisher: Altium Limited; PackageDescription: 18-Lead Plastic Dual In-Line (P) - 300 mil Body [PDIP]; Code_JEDEC: MS-001; ComponentLink1Description: Manufacturer Link; ComponentLink1URL: http://www.microchip.com; ComponentLink2Description: Datasheet; ComponentLink2URL: http://ww1.microchip.com/downloads/en/DeviceDoc/21919e.pdf; ComponentLink3Description: Packaging Specification; ComponentLink3URL: http://ww1.microchip.com/downloads/en/PackagingSpec/00049AW.pdf
footprint PDIP300-P18 (DIP, 18-Leads, Row Spacing 7.62mm, Pitch 2.54mm, Body 22.9x6.6mm)
pins: 1 SCK (in), 2 SI (in), 3 SO (out), 4 A1 (in), 5 A0 (in), 6 ~{RESET} (in), 7 ~{CS} (in), 8 INT (oc), 9 VSS (power), 10 GP0 (io), 11 GP1 (io), 12 GP2 (io), 13 GP3 (io), 14 GP4 (io), 15 GP5 (io), 16 GP6 (io), 17 GP7 (io), 18 VDD (power)

## MCP23S08-E/SO
designator U?
8-Bit I/O Expander with Serial Interface, 18-Pin SOIC, Extended Temperature; Published: 29-Jan-2009; DatasheetVersion: revE, Aug-2007; PackageVersion: revAW, Oct-2008; PackageReference: SOIC-SO18; Publisher: Altium Limited; PackageDescription: 18-Lead Plastic Small Outline (SO) - Wide 7.50mm Body [SOIC]; Code_JEDEC: MS-013; ComponentLink1Description: Manufacturer Link; ComponentLink1URL: http://www.microchip.com; ComponentLink2Description: Datasheet; ComponentLink2URL: http://ww1.microchip.com/downloads/en/DeviceDoc/21919e.pdf; ComponentLink3Description: Packaging Specification; ComponentLink3URL: http://ww1.microchip.com/downloads/en/PackagingSpec/00049AW.pdf
footprint SOIC-SO18_N (SOIC, 18-Leads, Body 11.5x7.5mm, Pitch 1.27mm, IPC Medium Density)
footprint SOIC-SO18_L (SOIC, 18-Leads, Body 11.5x7.5mm, Pitch 1.27mm, IPC High Density)
footprint SOIC-SO18_M (SOIC, 18-Leads, Body 11.5x7.5mm, Pitch 1.27mm, IPC Low Density)
pins: 1 SCK (in), 2 SI (in), 3 SO (out), 4 A1 (in), 5 A0 (in), 6 ~{RESET} (in), 7 ~{CS} (in), 8 INT (oc), 9 VSS (power), 10 GP0 (io), 11 GP1 (io), 12 GP2 (io), 13 GP3 (io), 14 GP4 (io), 15 GP5 (io), 16 GP6 (io), 17 GP7 (io), 18 VDD (power)

## MCP23S08-E/SS
designator U?
8-Bit I/O Expander with Serial Interface, 20-Pin SSOP, Extended Temperature; Published: 29-Jan-2009; DatasheetVersion: revE, Aug-2007; PackageVersion: revAW, Oct-2008; PackageReference: SSOP-SS20; Publisher: Altium Limited; PackageDescription: 20-Lead Plastic Shrink Small Outline (SS) - 5.3mm Body [SSOP]; Code_JEDEC: MO-150; Code_IPC: SOP65P780-20; ComponentLink1Description: Manufacturer Link; ComponentLink1URL: http://www.microchip.com; ComponentLink2Description: Datasheet; ComponentLink2URL: http://ww1.microchip.com/downloads/en/DeviceDoc/21919e.pdf; ComponentLink3Description: Packaging Specification; ComponentLink3URL: http://ww1.microchip.com/downloads/en/PackagingSpec/00049AW.pdf
footprint SSOP-SS20_N (SOP, 20-Leads, Body 7.2x5.2mm, Pitch 0.65mm, IPC Medium Density)
footprint SSOP-SS20_L (SOP, 20-Leads, Body 7.2x5.2mm, Pitch 0.65mm, IPC High Density)
footprint SSOP-SS20_M (SOP, 20-Leads, Body 7.2x5.2mm, Pitch 0.65mm, IPC Low Density)
pins: 1 SCK (in), 2 SI (in), 3 SO (out), 4 A1 (in), 5 A0 (in), 6 ~{RESET} (in), 7 ~{CS} (in), 8 NC, 9 INT (oc), 10 NC, 11 GP0 (io), 12 GP1 (io), 13 GP2 (io), 14 GP3 (io), 15 GP4 (io), 16 GP5 (io), 17 GP6 (io), 18 GP7 (io), 19 VSS (power), 20 VDD (power)

## MCP23S08T-E/ML
designator U?
8-Bit I/O Expander with Serial Interface, 20-Pin QFN, Extended Temperature, Tape and Reel; Published: 29-Jan-2009; DatasheetVersion: revE, Aug-2007; PackageVersion: revAW, Oct-2008; PackageReference: QFN-ML20; Publisher: Altium Limited; PackageDescription: 20-Lead Plastic Quad Flat, No Lead Package (ML) - 4x4x0.9 mm Body [QFN]; ComponentLink1Description: Manufacturer Link; ComponentLink1URL: http://www.microchip.com; ComponentLink2Description: Datasheet; ComponentLink2URL: http://ww1.microchip.com/downloads/en/DeviceDoc/21919e.pdf; ComponentLink3Description: Packaging Specification; ComponentLink3URL: http://ww1.microchip.com/downloads/en/PackagingSpec/00049AW.pdf
footprint QFN-ML20_N (QFN, 20-Leads, Body 4x4mm, Pitch 0.5mm, IPC Medium Density)
footprint QFN-ML20_L (QFN, 20-Leads, Body 4x4mm, Pitch 0.5mm, IPC High Density)
footprint QFN-ML20_M (QFN, 20-Leads, Body 4x4mm, Pitch 0.5mm, IPC Low Density)
pins: 1 SO (out), 2 A1 (in), 3 A0 (in), 4 ~{RESET} (in), 5 ~{CS} (in), 6 NC, 7 INT (oc), 8 NC, 9 GP0 (io), 10 GP1 (io), 11 GP2 (io), 12 GP3 (io), 13 GP4 (io), 14 GP5 (io), 15 GP6 (io), 16 GP7 (io), 17 VSS (power), 18 VDD (power), 19 SCK (in), 20 SI (in), 21 Thermal Pad

## MCP23S08T-E/SO
designator U?
8-Bit I/O Expander with Serial Interface, 18-Pin SOIC, Extended Temperature, Tape and Reel; Published: 29-Jan-2009; DatasheetVersion: revE, Aug-2007; PackageVersion: revAW, Oct-2008; PackageReference: SOIC-SO18; Publisher: Altium Limited; PackageDescription: 18-Lead Plastic Small Outline (SO) - Wide 7.50mm Body [SOIC]; Code_JEDEC: MS-013; ComponentLink1Description: Manufacturer Link; ComponentLink1URL: http://www.microchip.com; ComponentLink2Description: Datasheet; ComponentLink2URL: http://ww1.microchip.com/downloads/en/DeviceDoc/21919e.pdf; ComponentLink3Description: Packaging Specification; ComponentLink3URL: http://ww1.microchip.com/downloads/en/PackagingSpec/00049AW.pdf
footprint SOIC-SO18_N (SOIC, 18-Leads, Body 11.5x7.5mm, Pitch 1.27mm, IPC Medium Density)
footprint SOIC-SO18_L (SOIC, 18-Leads, Body 11.5x7.5mm, Pitch 1.27mm, IPC High Density)
footprint SOIC-SO18_M (SOIC, 18-Leads, Body 11.5x7.5mm, Pitch 1.27mm, IPC Low Density)
pins: 1 SCK (in), 2 SI (in), 3 SO (out), 4 A1 (in), 5 A0 (in), 6 ~{RESET} (in), 7 ~{CS} (in), 8 INT (oc), 9 VSS (power), 10 GP0 (io), 11 GP1 (io), 12 GP2 (io), 13 GP3 (io), 14 GP4 (io), 15 GP5 (io), 16 GP6 (io), 17 GP7 (io), 18 VDD (power)

## MCP23S08T-E/SS
designator U?
8-Bit I/O Expander with Serial Interface, 20-Pin SSOP, Extended Temperature, Tape and Reel; Published: 29-Jan-2009; DatasheetVersion: revE, Aug-2007; PackageVersion: revAW, Oct-2008; PackageReference: SSOP-SS20; Publisher: Altium Limited; PackageDescription: 20-Lead Plastic Shrink Small Outline (SS) - 5.3mm Body [SSOP]; Code_JEDEC: MO-150; Code_IPC: SOP65P780-20; ComponentLink1Description: Manufacturer Link; ComponentLink1URL: http://www.microchip.com; ComponentLink2Description: Datasheet; ComponentLink2URL: http://ww1.microchip.com/downloads/en/DeviceDoc/21919e.pdf; ComponentLink3Description: Packaging Specification; ComponentLink3URL: http://ww1.microchip.com/downloads/en/PackagingSpec/00049AW.pdf
footprint SSOP-SS20_N (SOP, 20-Leads, Body 7.2x5.2mm, Pitch 0.65mm, IPC Medium Density)
footprint SSOP-SS20_L (SOP, 20-Leads, Body 7.2x5.2mm, Pitch 0.65mm, IPC High Density)
footprint SSOP-SS20_M (SOP, 20-Leads, Body 7.2x5.2mm, Pitch 0.65mm, IPC Low Density)
pins: 1 SCK (in), 2 SI (in), 3 SO (out), 4 A1 (in), 5 A0 (in), 6 ~{RESET} (in), 7 ~{CS} (in), 8 NC, 9 INT (oc), 10 NC, 11 GP0 (io), 12 GP1 (io), 13 GP2 (io), 14 GP3 (io), 15 GP4 (io), 16 GP5 (io), 17 GP6 (io), 18 GP7 (io), 19 VSS (power), 20 VDD (power)

## MCP23S17-E/ML
designator U?
16-Bit I/O Expander with Serial Interface, 28-Pin QFN, Extended Temperature; Published: 29-Jan-2009; DatasheetVersion: revB, Feb-2007; PackageVersion: revAW, Oct-2008; PackageReference: QFN-ML28; Publisher: Altium Limited; PackageDescription: 28-Lead Plastic Quad Flat, No Lead Package (ML) - 6x6 mm Body [QFN] with 0.55 mm Contact Length; Code_JEDEC: MO-220; Code_IPC: QFN65P600X600-28V; ComponentLink1Description: Manufacturer Link; ComponentLink1URL: http://www.microchip.com; ComponentLink2Description: Datasheet; ComponentLink2URL: http://ww1.microchip.com/downloads/en/DeviceDoc/21952b.pdf; ComponentLink3Description: Packaging Specification; ComponentLink3URL: http://ww1.microchip.com/downloads/en/PackagingSpec/00049AW.pdf
footprint QFN-ML28_N (QFN, 28-Leads, Body 6x6 mm, Pitch 0.65mm, IPC Medium Density)
footprint QFN-ML28_L (QFN, 28-Leads, Body 6x6 mm, Pitch 0.65mm, IPC High Density)
footprint QFN-ML28_M (QFN, 28-Leads, Body 6x6 mm, Pitch 0.65mm, IPC Low Density)
pins: 1 GPB4 (io), 2 GPB5 (io), 3 GPB6 (io), 4 GPB7 (io), 5 VDD (power), 6 VSS (power), 7 ~{CS} (in), 8 SCK (in), 9 SI (in), 10 SO (out), 11 A0 (in), 12 A1 (in), 13 A2 (in), 14 ~{RESET} (in), 15 INTB (oc), 16 INTA (oc), 17 GPA0 (io), 18 GPA1 (io), 19 GPA2 (io), 20 GPA3 (io), 21 GPA4 (io), 22 GPA5 (io), 23 GPA6 (io), 24 GPA7 (io), 25 GPB0 (io), 26 GPB1 (io), 27 GPB2 (io), 28 GPB3 (io), 29 Thermal Pad

## MCP23S17-E/SO
designator U?
16-Bit I/O Expander with Serial Interface, 28-Pin SOIC, Extended Temperature; Published: 29-Jan-2009; DatasheetVersion: revB, Feb-2007; PackageVersion: revAW, Oct-2008; PackageReference: SOIC-SO28; Publisher: Altium Limited; PackageDescription: 28-Lead Plastic Small Outline (SO) - Wide 7.50mm Body [SOIC]; Code_JEDEC: MS-013; ComponentLink1Description: Manufacturer Link; ComponentLink1URL: http://www.microchip.com; ComponentLink2Description: Datasheet; ComponentLink2URL: http://ww1.microchip.com/downloads/en/DeviceDoc/21952b.pdf; ComponentLink3Description: Packaging Specification; ComponentLink3URL: http://ww1.microchip.com/downloads/en/PackagingSpec/00049AW.pdf
footprint SOIC-SO28_N (SOIC, 28-Leads, Body 17.9x7.5mm, Pitch 1.27mm, IPC Medium Density)
footprint SOIC-SO28_L (SOIC, 28-Leads, Body 17.9x7.5mm, Pitch 1.27mm, IPC High Density)
footprint SOIC-SO28_M (SOIC, 28-Leads, Body 17.9x7.5mm, Pitch 1.27mm, IPC Low Density)
pins: 1 GPB0 (io), 2 GPB1 (io), 3 GPB2 (io), 4 GPB3 (io), 5 GPB4 (io), 6 GPB5 (io), 7 GPB6 (io), 8 GPB7 (io), 9 VDD (power), 10 VSS (power), 11 ~{CS} (in), 12 SCK (in), 13 SI (in), 14 SO (out), 15 A0 (in), 16 A1 (in), 17 A2 (in), 18 ~{RESET} (in), 19 INTB (oc), 20 INTA (oc), 21 GPA0 (io), 22 GPA1 (io), 23 GPA2 (io), 24 GPA3 (io), 25 GPA4 (io), 26 GPA5 (io), 27 GPA6 (io), 28 GPA7 (io)

## MCP23S17-E/SP
designator U?
16-Bit I/O Expander with Serial Interface, 28-Pin SPDIP, Extended Temperature; Published: 29-Jan-2009; DatasheetVersion: revB, Feb-2007; PackageVersion: revAW, Oct-2008; PackageReference: SPDIP300-SP28; Publisher: Altium Limited; PackageDescription: 28-Lead Skinny Plastic Dual In-Line (SP) - 300 mil Body [SPDIP]; ComponentLink1Description: Manufacturer Link; ComponentLink1URL: http://www.microchip.com; ComponentLink2Description: Datasheet; ComponentLink2URL: http://ww1.microchip.com/downloads/en/DeviceDoc/21952b.pdf; ComponentLink3Description: Packaging Specification; ComponentLink3URL: http://ww1.microchip.com/downloads/en/PackagingSpec/00049AW.pdf
footprint SPDIP300-SP28 (DIP, 28-Leads, Row Spacing 7.62mm, Pitch 2.54mm, Body 34.9x6.8mm)
pins: 1 GPB0 (io), 2 GPB1 (io), 3 GPB2 (io), 4 GPB3 (io), 5 GPB4 (io), 6 GPB5 (io), 7 GPB6 (io), 8 GPB7 (io), 9 VDD (power), 10 VSS (power), 11 ~{CS} (in), 12 SCK (in), 13 SI (in), 14 SO (out), 15 A0 (in), 16 A1 (in), 17 A2 (in), 18 ~{RESET} (in), 19 INTB (oc), 20 INTA (oc), 21 GPA0 (io), 22 GPA1 (io), 23 GPA2 (io), 24 GPA3 (io), 25 GPA4 (io), 26 GPA5 (io), 27 GPA6 (io), 28 GPA7 (io)

## MCP23S17-E/SS
designator U?
16-Bit I/O Expander with Serial Interface, 28-Pin SSOP, Extended Temperature; Published: 29-Jan-2009; DatasheetVersion: revB, Feb-2007; PackageVersion: revAW, Oct-2008; PackageReference: SSOP-SS28; Publisher: Altium Limited; PackageDescription: 28-Lead Plastic Shrink Small Outline (SS) - 5.3mm Body [SSOP]; Code_JEDEC: MS-150; Code_IPC: SOP65P780-28; ComponentLink1Description: Manufacturer Link; ComponentLink1URL: http://www.microchip.com; ComponentLink2Description: Datasheet; ComponentLink2URL: http://ww1.microchip.com/downloads/en/DeviceDoc/21952b.pdf; ComponentLink3Description: Packaging Specification; ComponentLink3URL: http://ww1.microchip.com/downloads/en/PackagingSpec/00049AW.pdf
footprint SSOP-SS28_N (SOP, 28-Leads, Body 10.2x5.2mm, Pitch 0.65mm, IPC Medium Density)
footprint SSOP-SS28_L (SOP, 28-Leads, Body 10.2x5.2mm, Pitch 0.65mm, IPC High Density)
footprint SSOP-SS28_M (SOP, 28-Leads, Body 10.2x5.2mm, Pitch 0.65mm, IPC Low Density)
pins: 1 GPB0 (io), 2 GPB1 (io), 3 GPB2 (io), 4 GPB3 (io), 5 GPB4 (io), 6 GPB5 (io), 7 GPB6 (io), 8 GPB7 (io), 9 VDD (power), 10 VSS (power), 11 ~{CS} (in), 12 SCK (in), 13 SI (in), 14 SO (out), 15 A0 (in), 16 A1 (in), 17 A2 (in), 18 ~{RESET} (in), 19 INTB (oc), 20 INTA (oc), 21 GPA0 (io), 22 GPA1 (io), 23 GPA2 (io), 24 GPA3 (io), 25 GPA4 (io), 26 GPA5 (io), 27 GPA6 (io), 28 GPA7 (io)

## MCP23S17T-E/ML
designator U?
16-Bit I/O Expander with Serial Interface, 28-Pin QFN, Extended Temperature, Tape and Reel; Published: 29-Jan-2009; DatasheetVersion: revB, Feb-2007; PackageVersion: revAW, Oct-2008; PackageReference: QFN-ML28; Publisher: Altium Limited; PackageDescription: 28-Lead Plastic Quad Flat, No Lead Package (ML) - 6x6 mm Body [QFN] with 0.55 mm Contact Length; Code_JEDEC: MO-220; Code_IPC: QFN65P600X600-28V; ComponentLink1Description: Manufacturer Link; ComponentLink1URL: http://www.microchip.com; ComponentLink2Description: Datasheet; ComponentLink2URL: http://ww1.microchip.com/downloads/en/DeviceDoc/21952b.pdf; ComponentLink3Description: Packaging Specification; ComponentLink3URL: http://ww1.microchip.com/downloads/en/PackagingSpec/00049AW.pdf
footprint QFN-ML28_N (QFN, 28-Leads, Body 6x6 mm, Pitch 0.65mm, IPC Medium Density)
footprint QFN-ML28_L (QFN, 28-Leads, Body 6x6 mm, Pitch 0.65mm, IPC High Density)
footprint QFN-ML28_M (QFN, 28-Leads, Body 6x6 mm, Pitch 0.65mm, IPC Low Density)
pins: 1 GPB4 (io), 2 GPB5 (io), 3 GPB6 (io), 4 GPB7 (io), 5 VDD (power), 6 VSS (power), 7 ~{CS} (in), 8 SCK (in), 9 SI (in), 10 SO (out), 11 A0 (in), 12 A1 (in), 13 A2 (in), 14 ~{RESET} (in), 15 INTB (oc), 16 INTA (oc), 17 GPA0 (io), 18 GPA1 (io), 19 GPA2 (io), 20 GPA3 (io), 21 GPA4 (io), 22 GPA5 (io), 23 GPA6 (io), 24 GPA7 (io), 25 GPB0 (io), 26 GPB1 (io), 27 GPB2 (io), 28 GPB3 (io), 29 Thermal Pad

## MCP23S17T-E/SO
designator U?
16-Bit I/O Expander with Serial Interface, 28-Pin SOIC, Extended Temperature, Tape and Reel; Published: 29-Jan-2009; DatasheetVersion: revB, Feb-2007; PackageVersion: revAW, Oct-2008; PackageReference: SOIC-SO28; Publisher: Altium Limited; PackageDescription: 28-Lead Plastic Small Outline (SO) - Wide 7.50mm Body [SOIC]; Code_JEDEC: MS-013; ComponentLink1Description: Manufacturer Link; ComponentLink1URL: http://www.microchip.com; ComponentLink2Description: Datasheet; ComponentLink2URL: http://ww1.microchip.com/downloads/en/DeviceDoc/21952b.pdf; ComponentLink3Description: Packaging Specification; ComponentLink3URL: http://ww1.microchip.com/downloads/en/PackagingSpec/00049AW.pdf
footprint SOIC-SO28_N (SOIC, 28-Leads, Body 17.9x7.5mm, Pitch 1.27mm, IPC Medium Density)
footprint SOIC-SO28_L (SOIC, 28-Leads, Body 17.9x7.5mm, Pitch 1.27mm, IPC High Density)
footprint SOIC-SO28_M (SOIC, 28-Leads, Body 17.9x7.5mm, Pitch 1.27mm, IPC Low Density)
pins: 1 GPB0 (io), 2 GPB1 (io), 3 GPB2 (io), 4 GPB3 (io), 5 GPB4 (io), 6 GPB5 (io), 7 GPB6 (io), 8 GPB7 (io), 9 VDD (power), 10 VSS (power), 11 ~{CS} (in), 12 SCK (in), 13 SI (in), 14 SO (out), 15 A0 (in), 16 A1 (in), 17 A2 (in), 18 ~{RESET} (in), 19 INTB (oc), 20 INTA (oc), 21 GPA0 (io), 22 GPA1 (io), 23 GPA2 (io), 24 GPA3 (io), 25 GPA4 (io), 26 GPA5 (io), 27 GPA6 (io), 28 GPA7 (io)

## MCP23S17T-E/SS
designator U?
16-Bit I/O Expander with Serial Interface, 28-Pin SSOP, Extended Temperature, Tape and Reel; Published: 29-Jan-2009; DatasheetVersion: revB, Feb-2007; PackageVersion: revAW, Oct-2008; PackageReference: SSOP-SS28; Publisher: Altium Limited; PackageDescription: 28-Lead Plastic Shrink Small Outline (SS) - 5.3mm Body [SSOP]; Code_JEDEC: MS-150; Code_IPC: SOP65P780-28; ComponentLink1Description: Manufacturer Link; ComponentLink1URL: http://www.microchip.com; ComponentLink2Description: Datasheet; ComponentLink2URL: http://ww1.microchip.com/downloads/en/DeviceDoc/21952b.pdf; ComponentLink3Description: Packaging Specification; ComponentLink3URL: http://ww1.microchip.com/downloads/en/PackagingSpec/00049AW.pdf
footprint SSOP-SS28_N (SOP, 28-Leads, Body 10.2x5.2mm, Pitch 0.65mm, IPC Medium Density)
footprint SSOP-SS28_L (SOP, 28-Leads, Body 10.2x5.2mm, Pitch 0.65mm, IPC High Density)
footprint SSOP-SS28_M (SOP, 28-Leads, Body 10.2x5.2mm, Pitch 0.65mm, IPC Low Density)
pins: 1 GPB0 (io), 2 GPB1 (io), 3 GPB2 (io), 4 GPB3 (io), 5 GPB4 (io), 6 GPB5 (io), 7 GPB6 (io), 8 GPB7 (io), 9 VDD (power), 10 VSS (power), 11 ~{CS} (in), 12 SCK (in), 13 SI (in), 14 SO (out), 15 A0 (in), 16 A1 (in), 17 A2 (in), 18 ~{RESET} (in), 19 INTB (oc), 20 INTA (oc), 21 GPA0 (io), 22 GPA1 (io), 23 GPA2 (io), 24 GPA3 (io), 25 GPA4 (io), 26 GPA5 (io), 27 GPA6 (io), 28 GPA7 (io)

## MCP201-E/P
designator U?
LIN Transceiver with Voltage Regulator, 8-Pin PDIP, Extended Temperature; Published: 29-Jan-2009; DatasheetVersion: revF, Jan-2007; PackageVersion: revAW, Oct-2008; PackageReference: PDIP300-P8; Publisher: Altium Limited; PackageDescription: 8-Lead Plastic Dual In-Line (P) - 300 mil Body [PDIP]; Code_JEDEC: MS-001; ComponentLink1Description: Manufacturer Link; ComponentLink1URL: http://www.microchip.com; ComponentLink2Description: Datasheet; ComponentLink2URL: http://ww1.microchip.com/downloads/en/DeviceDoc/21730F.pdf; ComponentLink3Description: Packaging Specification; ComponentLink3URL: http://ww1.microchip.com/downloads/en/PackagingSpec/00049AW.pdf
footprint PDIP300-P8 (DIP, 8-Leads, Row Spacing 7.62mm, Pitch 2.54mm, Body 9.5x6.6mm)
pins: 1 RXD (in), 2 CS/WAKE (out), 3 VREG (out), 4 TXD (in), 5 VSS (power), 6 LIN (io), 7 VBAT (in), 8 ~{FAULT}/SLPS (io)

## MCP201-E/SN
designator U?
LIN Transceiver with Voltage Regulator, 8-Pin SOIC, Extended Temperature; Published: 29-Jan-2009; DatasheetVersion: revF, Jan-2007; PackageVersion: revAW, Oct-2008; PackageReference: SOIC-SN8; Publisher: Altium Limited; PackageDescription: 8-Lead Plastic Small Outline (SN) - Narrow, 3.90mm Body [SOIC]; Code_JEDEC: MS-012; Code_IPC: SOIC127P600-8; ComponentLink1Description: Manufacturer Link; ComponentLink1URL: http://www.microchip.com; ComponentLink2Description: Datasheet; ComponentLink2URL: http://ww1.microchip.com/downloads/en/DeviceDoc/21730F.pdf; ComponentLink3Description: Packaging Specification; ComponentLink3URL: http://ww1.microchip.com/downloads/en/PackagingSpec/00049AW.pdf
footprint SOIC-SN8_N (SOIC, 8-Leads, Body 4.9x3.8mm, Pitch 1.27mm, IPC Medium Density)
footprint SOIC-SN8_L (SOIC, 8-Leads, Body 4.9x3.8mm, Pitch 1.27mm, IPC High Density)
footprint SOIC-SN8_M (SOIC, 8-Leads, Body 4.9x3.8mm, Pitch 1.27mm, IPC Low Density)
pins: 1 RXD (in), 2 CS/WAKE (out), 3 VREG (out), 4 TXD (in), 5 VSS (power), 6 LIN (io), 7 VBAT (in), 8 ~{FAULT}/SLPS (io)

## MCP201-I/P
designator U?
LIN Transceiver with Voltage Regulator, 8-Pin PDIP, Industrial Temperature; Published: 29-Jan-2009; DatasheetVersion: revF, Jan-2007; PackageVersion: revAW, Oct-2008; PackageReference: PDIP300-P8; Publisher: Altium Limited; PackageDescription: 8-Lead Plastic Dual In-Line (P) - 300 mil Body [PDIP]; Code_JEDEC: MS-001; ComponentLink1Description: Manufacturer Link; ComponentLink1URL: http://www.microchip.com; ComponentLink2Description: Datasheet; ComponentLink2URL: http://ww1.microchip.com/downloads/en/DeviceDoc/21730F.pdf; ComponentLink3Description: Packaging Specification; ComponentLink3URL: http://ww1.microchip.com/downloads/en/PackagingSpec/00049AW.pdf
footprint PDIP300-P8 (DIP, 8-Leads, Row Spacing 7.62mm, Pitch 2.54mm, Body 9.5x6.6mm)
pins: 1 RXD (in), 2 CS/WAKE (out), 3 VREG (out), 4 TXD (in), 5 VSS (power), 6 LIN (io), 7 VBAT (in), 8 ~{FAULT}/SLPS (io)

## MCP201-I/SN
designator U?
LIN Transceiver with Voltage Regulator, 8-Pin SOIC, Industrial Temperature; Published: 29-Jan-2009; DatasheetVersion: revF, Jan-2007; PackageVersion: revAW, Oct-2008; PackageReference: SOIC-SN8; Publisher: Altium Limited; PackageDescription: 8-Lead Plastic Small Outline (SN) - Narrow, 3.90mm Body [SOIC]; Code_JEDEC: MS-012; Code_IPC: SOIC127P600-8; ComponentLink1Description: Manufacturer Link; ComponentLink1URL: http://www.microchip.com; ComponentLink2Description: Datasheet; ComponentLink2URL: http://ww1.microchip.com/downloads/en/DeviceDoc/21730F.pdf; ComponentLink3Description: Packaging Specification; ComponentLink3URL: http://ww1.microchip.com/downloads/en/PackagingSpec/00049AW.pdf
footprint SOIC-SN8_N (SOIC, 8-Leads, Body 4.9x3.8mm, Pitch 1.27mm, IPC Medium Density)
footprint SOIC-SN8_L (SOIC, 8-Leads, Body 4.9x3.8mm, Pitch 1.27mm, IPC High Density)
footprint SOIC-SN8_M (SOIC, 8-Leads, Body 4.9x3.8mm, Pitch 1.27mm, IPC Low Density)
pins: 1 RXD (in), 2 CS/WAKE (out), 3 VREG (out), 4 TXD (in), 5 VSS (power), 6 LIN (io), 7 VBAT (in), 8 ~{FAULT}/SLPS (io)

## MCP201T-E/SN
designator U?
LIN Transceiver with Voltage Regulator, 8-Pin SOIC, Extended Temperature, Tape and Reel; Published: 29-Jan-2009; DatasheetVersion: revF, Jan-2007; PackageVersion: revAW, Oct-2008; PackageReference: SOIC-SN8; Publisher: Altium Limited; PackageDescription: 8-Lead Plastic Small Outline (SN) - Narrow, 3.90mm Body [SOIC]; Code_JEDEC: MS-012; Code_IPC: SOIC127P600-8; ComponentLink1Description: Manufacturer Link; ComponentLink1URL: http://www.microchip.com; ComponentLink2Description: Datasheet; ComponentLink2URL: http://ww1.microchip.com/downloads/en/DeviceDoc/21730F.pdf; ComponentLink3Description: Packaging Specification; ComponentLink3URL: http://ww1.microchip.com/downloads/en/PackagingSpec/00049AW.pdf
footprint SOIC-SN8_N (SOIC, 8-Leads, Body 4.9x3.8mm, Pitch 1.27mm, IPC Medium Density)
footprint SOIC-SN8_L (SOIC, 8-Leads, Body 4.9x3.8mm, Pitch 1.27mm, IPC High Density)
footprint SOIC-SN8_M (SOIC, 8-Leads, Body 4.9x3.8mm, Pitch 1.27mm, IPC Low Density)
pins: 1 RXD (in), 2 CS/WAKE (out), 3 VREG (out), 4 TXD (in), 5 VSS (power), 6 LIN (io), 7 VBAT (in), 8 ~{FAULT}/SLPS (io)

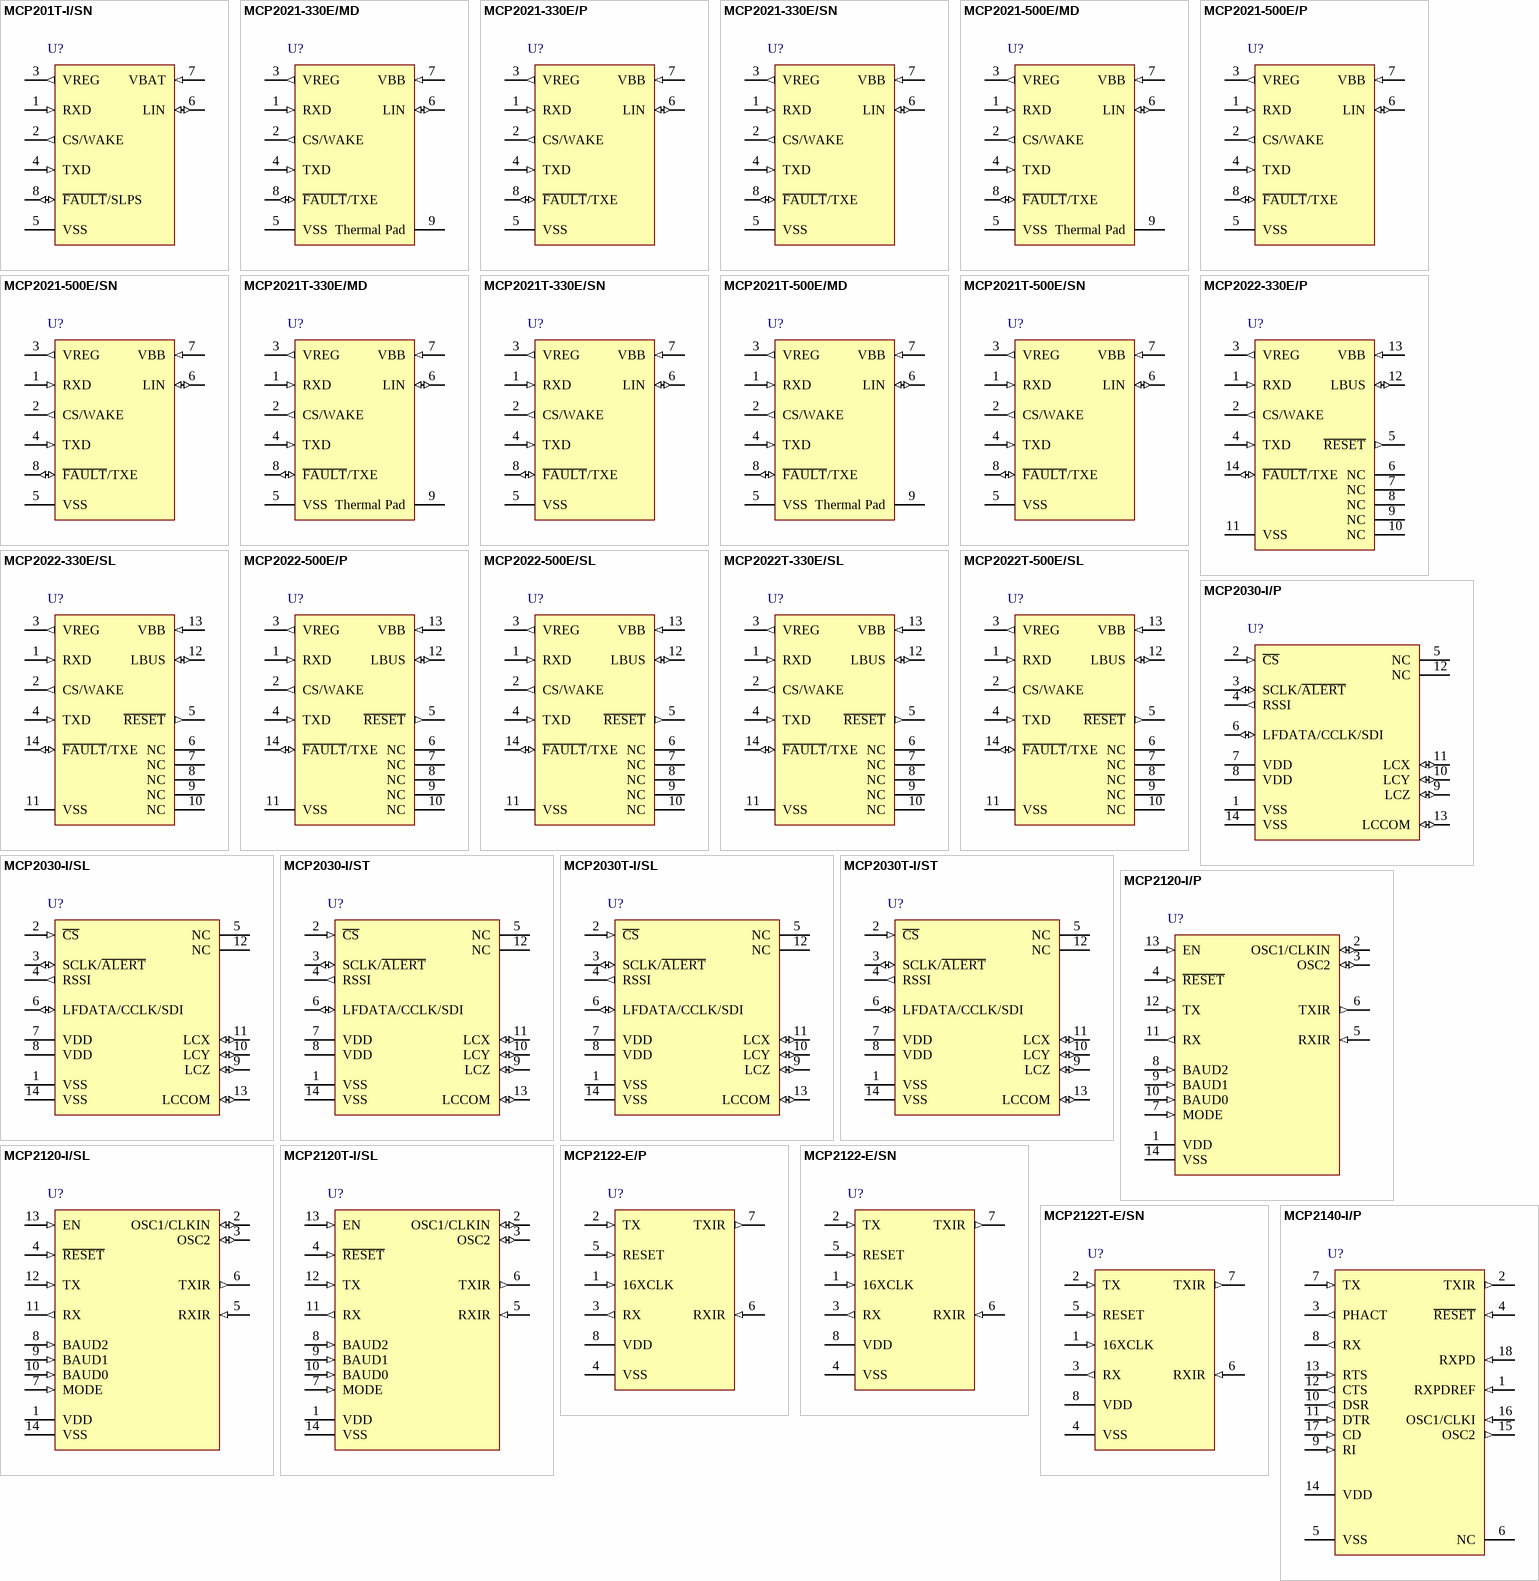
[diagram p2: symbols MCP201T-I/SN to MCP2140-I/P]